# EAGLE library part SHT21 (library SHT21)
Sensor Humidity & Temp 2%RH I2C DFN6 SHT21, 8 Source: Datasheet <https://datasheet.datasheetarchive.com/originals/distributors/DKDS-37/728928.pdf>
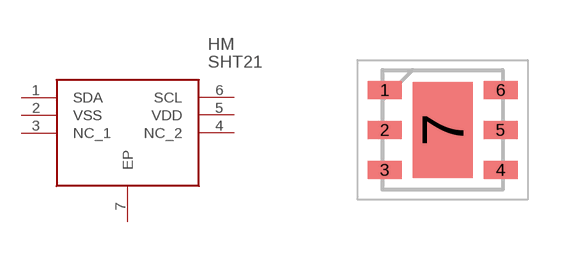
[diagram p0: symbol with the pads of SON100P300X300X110-7N; footprint SON100P300X300X110-7N]

Designator prefix HM

## SHT21 (Description: Sensor Humidity & Temp 2%RH I2C DFN6 SHT21, 8; Height: 1.1mm; Manufacturer_Name: Sensirion; Manufacturer_Part_Number: SHT21; Mouser_Part_Number: 403-SHT21; Mouser_Price-Stock: https://www.mouser.co.uk/ProductDetail/Sensirion/SHT21?qs=wWC4CIiyLaNbiIJO6bf9AA%3D%3D)  [SON100P300X300X110-7N]
1  SDA
2  VSS
3  NC_1
4  NC_2
5  VDD
6  SCL
7  EP

## Footprint SON100P300X300X110-7N (pad centres in mm)
SHT21
smd 0.85 x 0.45: 1 -1.45,1; 2 -1.45,0; 3 -1.45,-1; 4 1.45,-1; 5 1.45,0; 6 1.45,1
smd 1.5 x 2.4: 7 0,0